# Altium integrated library 10090926-P154XLF.IntLib: 1 symbol
Pins are listed as number, name and electrical type; pins without a type are passive.

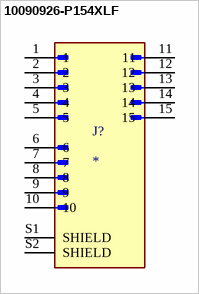
[diagram p0: symbol 10090926-P154XLF]

## 10090926-P154XLF
designator J?
Conn High Density D-Sub PIN 15 POS 2.29mm Solder RA Thru-Hole 15 Terminal 1 Port; MF: Amphenol; MP: 10090926-P154XLF; Package: None; Price: None; Check_prices: https://www.snapeda.com/parts/10090926-P154XLF/Amphenol/view-part/?ref=eda; Value: *; SnapEDA_Link: https://www.snapeda.com/parts/10090926-P154XLF/Amphenol/view-part/?ref=snap; Availability: In Stock; Purchase-URL: https://pricing.snapeda.com/search?q=10090926-P154XLF&ref=eda
footprint AMPHENOL_10090926-P154XLF
pins: 1, 2, 3, 4, 5, 6, 7, 8, 9, 10, 11, 12, 13, 14, 15, S1 SHIELD, S2 SHIELD